# Altium footprint library footprints_library_legacy.pcblib: 35 footprints (part 1 of 3)
Each footprint in its own frame and in the unit in brackets; x right, y up, seen from the top. Pads: shape width x height; smd on the part's side, far side on the other; paste and mask are expansions set on the pad; w line width, h text height; cw(c..) or ccw(c..) is an arc to the next point about the centre after c.
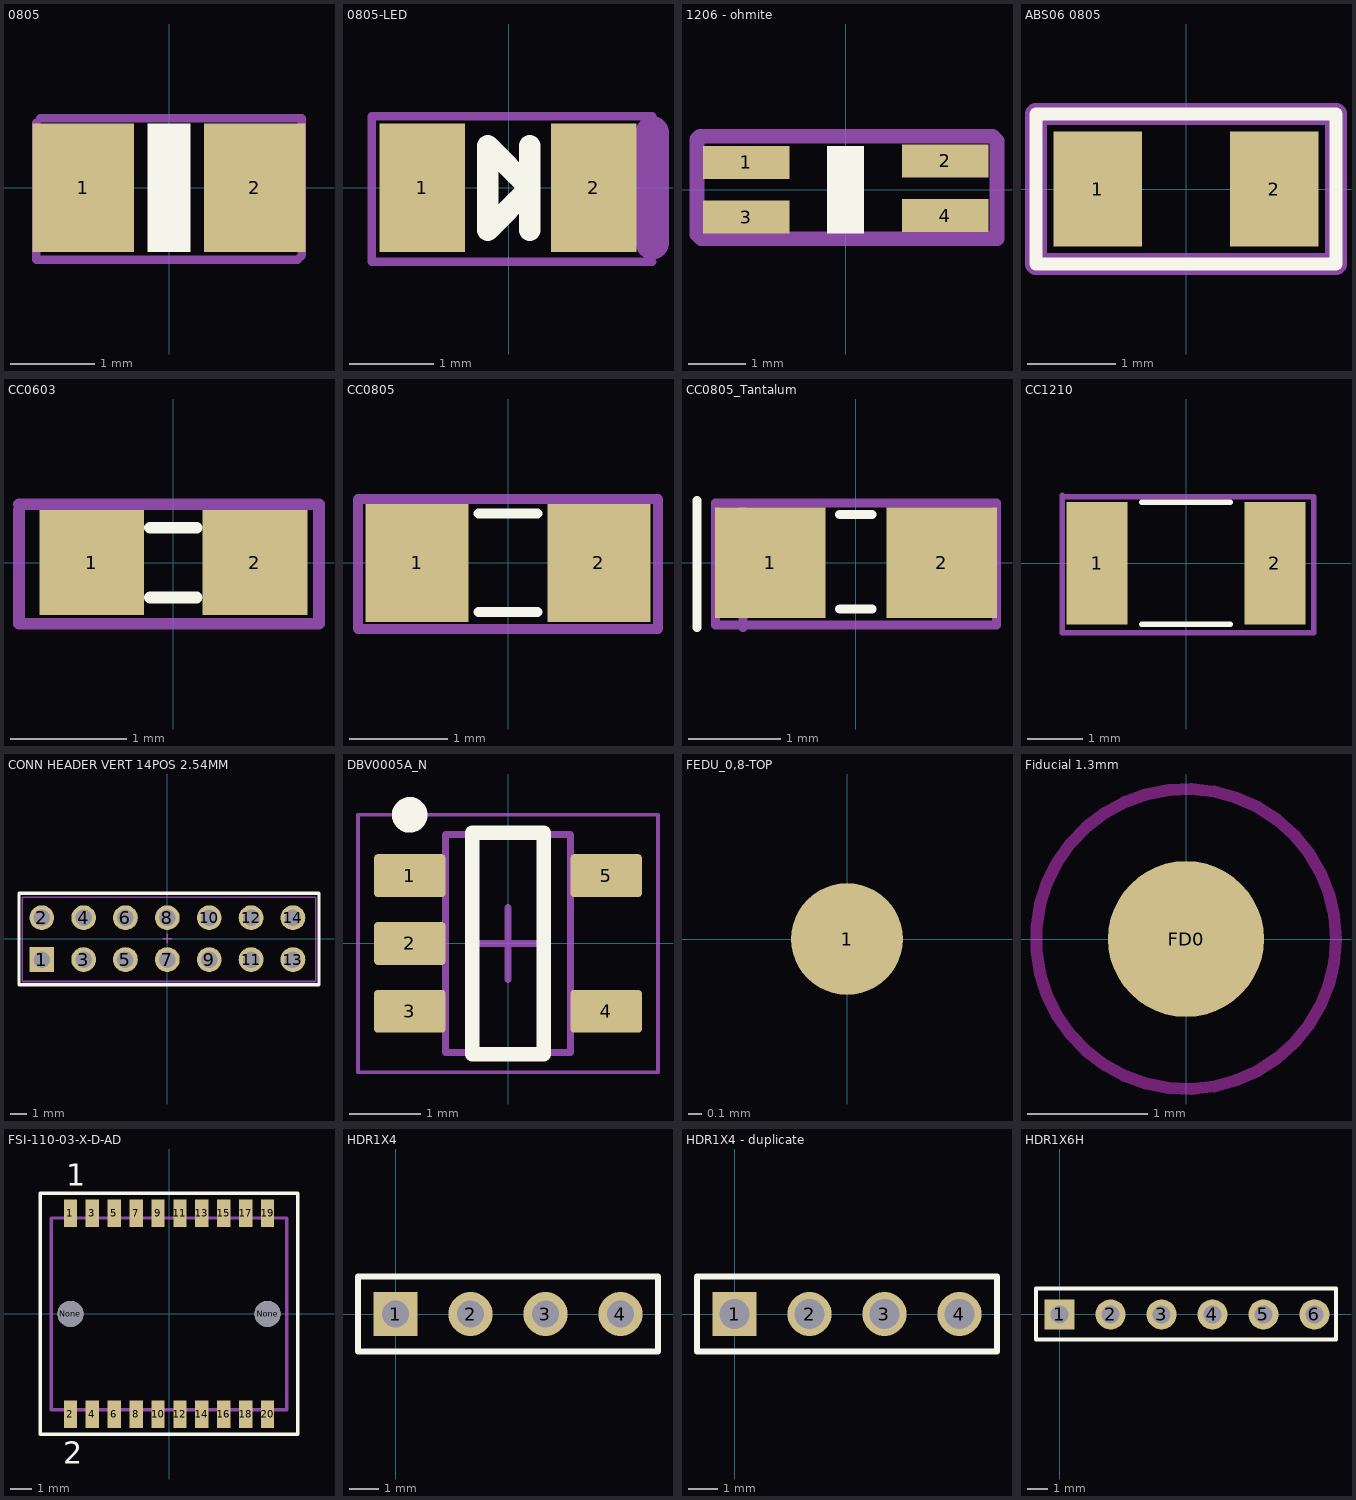
[diagram p0: the footprints below, top view; thin cyan lines are the x and y axes]

## 0805 [mil]
pads (2):
  rect 47.24x60 smd: 1(-40,0) 2(40,0)
Top Overlay:
  rectangle: -10,-30 10,30
Mechanical 15:
  lines w3.94: -62.01,30.51 -62.01,-33.46 60.04,-33.46 62.01,-31.5 62.01,32.48 -60.04,32.48
  text ".Designator" at -58.7,-2.44 h19.68
3D body "RES0805(2012M).STEP": height 31.1, standoff 0, extent -50,-24.49 48.75,24.51

## 0805-LED [mil]
height 122.05
pads (2):
  rect 40x60 smd: 1(-40.35,0) 2(39.65,0)
Top Overlay:
  lines w10: 9.84,-19.68 9.84,19.68 ; -9.84,-19.68 -9.84,19.68 9.84,0 -9.84,-19.68
Mechanical 15:
  lines w3.94: 66.93,-34.45 -63.98,-34.45 -63.98,33.46 66.93,33.46
  lines w15.75: 66.93,-25.59 66.93,25.59
  text ".Designator" at -41.34,-1.97 h19.68
3D body "User Library-led_0805LED0805_red.STEP": height 43.31, standoff 0, extent -39.76,-24.6 39.77,24.61

## 1206 - ohmite [mm]
height 3.1
pads (4):
  rect 1.5x0.57 smd: 1(-1.725,0.475) 2(1.725,0.5) 3(-1.725,-0.475) 4(1.725,-0.45)
Top Overlay:
  rectangle: -0.317,-0.762 0.318,0.762
Mechanical 15:
  lines w0.254: -2.575,-0.775 -2.5,-0.85 2.625,-0.85 2.625,0.85 2.55,0.925 -2.525,0.925 -2.575,0.875 -2.575,-0.775
  text ".Designator" at -2.575,-0.075 h0.5
3D body "RES1206(3216M).STEP": height 1.53, standoff 0, extent -2.015,-0.8 1.986,0.8

## ABS06 0805 [mm]
height 3.1
pads (2):
  rect 1x1.3 smd: 1(-1,0) 2(1,0)
Top Overlay:
  lines w0.15: -1.7,-0.85 -1.7,0.85 1.7,0.85 1.7,-0.85 -1.7,-0.85
Mechanical 15:
  lines w0.15: -1.7,-0.85 1.7,-0.85 1.7,0.85 -1.7,0.85 -1.7,-0.85
  lines w0.254: -1.7,-0.85 -1.7,0.85 1.7,0.85 1.7,-0.85 -1.7,-0.85
  text ".Designator" at -1.45,-0.25 h0.5
3D body "ABS06.STEP": height 0.6, standoff 0, extent -1,-0.6 1,0.62

## CC0603 [mm] "TDK mlccspec_commercial_general_midvoltage_en.pdf"
height 0.8
pads (2):
  rect 0.9x0.9 smd: 1(-0.7,0) 2(0.7,0)
Top Overlay:
  lines w0.1: -0.2,-0.3 0.2,-0.3 ; -0.2,0.3 0.2,0.3
Mechanical 15:
  lines w0.1: -1.325,0.45 -1.325,-0.525 1.25,-0.525 1.25,0.5 -1.325,0.5
  text ".Designator" at -1.075,-0.175 h0.89
3D body "CC0603(1608M).STEP": height 0.78, standoff -0.01, extent -1,-0.394 1,0.394

## CC0805 [mm] "TDK mlccspec_commercial_general_midvoltage_en.pdf"
height 1.25
pads (2):
  rect 1.05x1.2 smd: 1(-0.925,0) 2(0.925,0)
Top Overlay:
  lines w0.1: -0.3,-0.5 0.3,-0.5 ; -0.3,0.5 0.3,0.5
Mechanical 15:
  lines w0.1: -1.525,-0.675 -1.525,0.65 1.525,0.65 1.525,-0.675 -1.525,-0.675
  text ".Designator" at -1.275,-0.075 h0.5
3D body "CC0805(2012M).STEP": height 0.78, standoff -0.01, extent -1.254,-0.622 1.254,0.622

## CC0805_Tantalum [mm] "TDK mlccspec_commercial_general_midvoltage_en.pdf"
height 1.25
pads (2):
  rect 1.2x1.2 smd: 1(-0.93,0) 2(0.93,0)
Top Overlay:
  lines w0.1: -1.725,-0.7 -1.725,0.675 ; -0.175,-0.5 0.175,-0.5 ; -0.175,0.525 0.175,0.525
Mechanical 15:
  lines w0.1: -1.225,-0.7 -1.225,0.625 ; -1.525,-0.675 1.525,-0.675 1.525,0.65 -1.525,0.65 -1.525,-0.675
  text ".Designator" at 1.28,0.24 h0.5
3D body "User Library-Tantalum Capacitor Case R.STEP": height 1.35, standoff 0, extent -1.042,-0.585 1.208,0.765

## CC1210 [mm] "TDK mlccspec_commercial_general_midvoltage_en.pdf"
height 2.5
pads (2):
  rect 1.1x2.2 smd: 1(-1.6,0) 2(1.6,0)
Top Overlay:
  lines w0.1: -0.8,-1.1 0.8,-1.1 ; -0.8,1.1 0.8,1.1
Mechanical 15:
  lines w0.1: -2.225,1.225 -2.225,-1.25 2.3,-1.25 2.3,1.2 -2.175,1.2
  text ".Designator" at -1.66,0.01 h0.5
3D body "CC1210(3225M).STEP": height 1.69, standoff -0.01, extent -2,-1.244 2,1.245

## CONN HEADER VERT 14POS 2.54MM [mm]
pads (14):
  rect 1.5x1.5 hole 1: 1(-7.62,-1.27)
  round 1.5 hole 1: 2(-7.62,1.27) 3(-5.08,-1.27) 4(-5.08,1.27) 5(-2.54,-1.27) 6(-2.54,1.27) 7(0,-1.27) 8(0,1.27) 9(2.54,-1.27) 10(2.54,1.27) 11(5.08,-1.27) 12(5.08,1.27) 13(7.62,-1.27) 14(7.62,1.27)
Top Overlay:
  lines w0.2: -9,-2.8 9.2,-2.8 9.2,2.75 0.21,2.75 -9,2.75 -9,-2.8
Mechanical 15:
  lines w0.1: -0.25,0 0.25,0 ; 0,-0.25 0,0.25 ; -8.8,-2.6 -8.8,0.25 -8.8,2.5 9,2.5 9,-2.6 -8.8,-2.6
  text "'.Designator'" at -1.75,0.75 h1.2

## DBV0005A_N [mm] "SOT23, 5-Leads, Body 3.05x1.75mm, Pitch 0.95mm, IPC Medium Density"
height 1.45
pads (5):
  rrect17% 1x0.6 smd: 1(-1.375,0.95) 2(-1.375,0) 3(-1.375,-0.95) 4(1.375,-0.95) 5(1.375,0.95)
Top Overlay:
  circle w0.25: c-1.375,1.8 r0.125
  lines w0.2: -0.5,-1.55 -0.5,1.55 0.5,1.55 0.5,-1.55 -0.5,-1.55
Mechanical 1:
  text ".Designator" at -0.635,-0.254 h0.4
Mechanical 13:
  lines w0.1: -0.875,-1.525 0.875,-1.525 0.875,1.525 -0.875,1.525 -0.875,-1.525
Mechanical 15:
  lines w0.05: -2.1,-1.8 2.1,-1.8 2.1,1.8 -2.1,1.8 -2.1,-1.8
  lines w0.1: -0.5,0 0.5,0 ; 0,-0.5 0,0.5
3D body "DBV0005AaksMF05A.stp": height 1.08, standoff -0.01, extent -1.422,-1.461 1.422,1.46

## FEDU_0,8-TOP [mil]
pads (1):
  round 32 smd: 1(0,0)
Top Solder:
  circle w10: c0,0 r43.01
  region: -31,-31 0,-43 32,-31 43,0 32,29 0,43 -31,31 -43,0

## Fiducial 1.3mm [mm]
pads (1):
  round 1.3 smd mask+0.6: FD0(0,0)
Top Layer keep-out:
  circle w0.1: c0,0 r1.25

## FSI-110-03-X-D-AD [mm]
pads (22):
  rect 0.61x1.26 smd: 1(-4.5,4.59) 2(-4.5,-4.59) 3(-3.5,4.59) 4(-3.5,-4.59) 5(-2.5,4.59) 6(-2.5,-4.59) 7(-1.5,4.59) 8(-1.5,-4.59) 9(-0.5,4.59) 10(-0.5,-4.59) 11(0.5,4.59) 12(0.5,-4.59) 13(1.5,4.59) 14(1.5,-4.59) 15(2.5,4.59) 16(2.5,-4.59) 17(3.5,4.59) 18(3.5,-4.59) 19(4.5,4.59) 20(4.5,-4.59)
  round 1.19 hole 1.19 unplated: None(-4.5,0) None(4.5,0)
Top Overlay:
  lines w0.15: -5.88,-5.5 -5.88,5.5 5.88,5.5 5.88,-5.5 -5.88,-5.5
  text "1" at -4.699,5.842 h1
  text "2" at -4.826,-6.858 h1
Mechanical 4:
  lines w0.15: -5.38,-4.38 -5.38,4.38 ; -5.38,-4.38 5.38,-4.38 ; -5.38,-4.38 -5.38,4.38 ; -5.38,-4.38 5.38,-4.38 ; -5.38,4.38 5.38,4.38 ; -5.38,4.38 5.38,4.38 ; 5.38,-4.38 5.38,4.38 ; 5.38,-4.38 5.38,4.38
3D body "FSI-110-03-G-D-AD.x_t": height 4.25, standoff -1.55, extent -5.38,-4.936 5.38,5.064

## HDR1X4 [mm] "Connector; Header; 4 Position"
height 3.1
pads (4):
  rect 1.5x1.5 hole 0.9: 1(0,0)
  round 1.5 hole 0.9: 2(2.54,0) 3(5.08,0) 4(7.62,0)
Top Overlay:
  lines w0.2: -1.27,-1.27 8.89,-1.27 8.89,1.27 -1.27,1.27 -1.27,-1.27

## HDR1X4 - duplicate [mm] "Connector; Header; 4 Position"
height 3.1
pads (4):
  rect 1.5x1.5 hole 1: 1(0,0)
  round 1.5 hole 1: 2(2.54,0) 3(5.08,0) 4(7.62,0)
Top Overlay:
  lines w0.2: -1.27,-1.27 8.89,-1.27 8.89,1.27 -1.27,1.27 -1.27,-1.27

## HDR1X6H [mm] "Connector; Header; 6 Position; Right Angle"
pads (6):
  rect 1.5x1.5 hole 0.9: 1(0,0)
  round 1.5 hole 0.9: 2(2.54,0) 3(5.08,0) 4(7.62,0) 5(10.16,0) 6(12.7,0)
Top Overlay:
  lines w0.2: -1.18,-1.24 -1.18,1.28 13.78,1.28 13.78,0.135 13.78,-1.24 -1.18,-1.24